# EAGLE library part MOLKK_6PIN (library daqcs)
Molex KK Series 6-Position Connector Wire to board 2.54 mm (.1 inch) pitch header (right-angle or vertical) Housing: Vendor=Molex, Vendor_PN=10112063 Crimp: Vendor=Molex, Vendor_PN=0008550124 Wires: AWG,Amps (Max) 22, 4.00 24, 3.75 26, 3.50 28, 3.00 30, 2.50
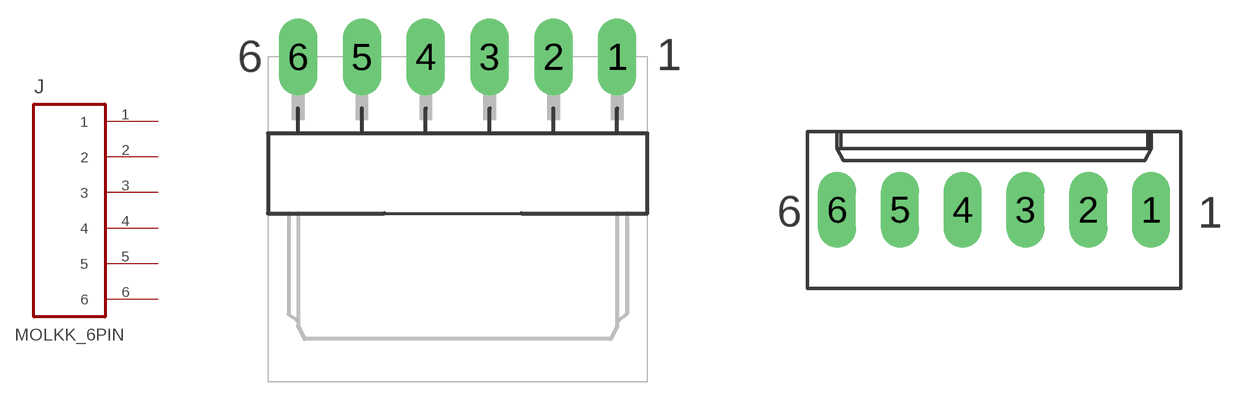
[diagram p7: symbol with the pads of MOLKK-6-RA; footprints MOLKK-6-RA, MOLKK-6-V]

Designator prefix J

## MOLKK_6PIN_6RA_RA (FINISH: GOLD; LOCKING: YES; MANUFACTURER: Molex; MANUFACTURER_PN: 0022122064; MAX_CURRENT: 4.0A; MOUNT_ANGLE: RIGHT; MOUNT_TYPE: TH; POSITIONS: 6; VALUE: MOL-KK-6P-RA; VENDOR: Digi-key; VENDOR_PN: WM2715-ND)  [MOLKK-6-RA]
1  1
2  2
3  3
4  4
5  5
6  6

## MOLKK_6PIN_6V_V (FINISH: GOLD; LOCKING: YES; MANUFACTURER: Molex; MANUFACTURER_PN: 0022112062; MAX_CURRENT: 4.0A; MOUNT_ANGLE: VERTICAL; MOUNT_TYPE: TH; VALUE: MOL-KK-6P-V; VENDOR: Digi-key; VENDOR_PN: WM2704-ND)  [MOLKK-6-V]
Pads as for MOLKK-6-RA

## Footprint MOLKK-6-RA (pad centres in mm)
MOLEX 3-Position 2.54mm KK RA CONNECTOR Fixed Orientation
drill 1.02 long: 1 6.35,0; 2 3.81,0; 3 1.27,0; 4 -1.27,0; 5 -3.81,0; 6 -6.35,0

## Footprint MOLKK-6-V (pad centres in mm)
MOLEX 2.54mm KK CONNECTOR
drill 1.02 long: 1 6.35,0; 2 3.81,0; 3 1.27,0; 4 -1.27,0; 5 -3.81,0; 6 -6.35,0